# EAGLE library part FT240X (library ftdi)
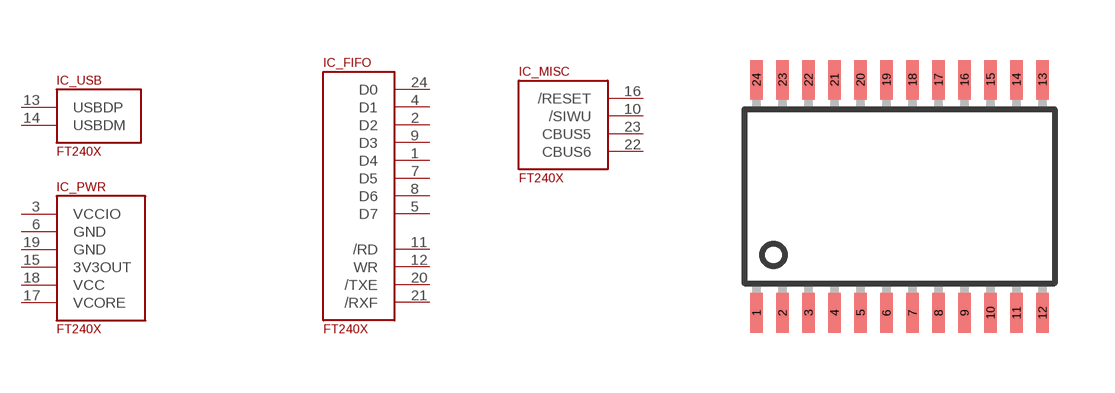
[diagram p0: symbol with the pads of TSSOP24; footprint TSSOP24]

Designator prefix IC; gates _FIFO=FT240X_FIFO _MISC=FT240X_MISC _PWR=FT240X_PWR _USB=FTDI_USB

## FT240XS  [TSSOP24]
1  _FIFO:D4
2  _FIFO:D2
3  _PWR:VCCIO  in
4  _FIFO:D1
5  _FIFO:D7
6  _PWR:GND  pwr
7  _FIFO:D5
8  _FIFO:D6
9  _FIFO:D3
10  _MISC:/SIWU
11  _FIFO:/RD
12  _FIFO:WR
13  _USB:USBDP
14  _USB:USBDM
15  _PWR:3V3OUT  out
16  _MISC:/RESET
17  _PWR:VCORE  pas
18  _PWR:VCC  in
19  _PWR:GND  pwr
20  _FIFO:/TXE
21  _FIFO:/RXF
22  _MISC:CBUS6
23  _MISC:CBUS5
24  _FIFO:D0

## Footprint TSSOP24 (pad centres in mm)
24-Lead Thin Shrink Small Outline Package TSSOP (RU-24) Source: http://www.analog.com/UploadedFiles/Data_Sheets/39677768AD7714_c.pdf
smd 0.305 x 0.991: 1 -3.575,-2.918; 2 -2.925,-2.918; 3 -2.275,-2.918; 4 -1.625,-2.918; 5 -0.975,-2.918; 6 -0.325,-2.918; 7 0.325,-2.918; 8 0.975,-2.918; 9 1.625,-2.918; 10 2.275,-2.918; 11 2.925,-2.918; 12 3.575,-2.918; 13 3.575,2.918; 14 2.925,2.918; 15 2.275,2.918; 16 1.625,2.918; 17 0.975,2.918; 18 0.325,2.918; 19 -0.325,2.918; 20 -0.975,2.918; 21 -1.625,2.918; 22 -2.275,2.918; 23 -2.925,2.918; 24 -3.575,2.918